# Altium schematic symbol library TPS.SchLib: 1 symbol
Pins are listed as number, name and electrical type; pins without a type are passive.

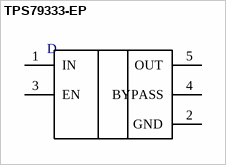
[diagram p0: symbol TPS79333-EP]

## TPS79333-EP
designator D  (value not drawn)
ULTRALOW-NOISE, HIGH-PSRR, FAST RF 200-mA / LOW-DROPOUT LINEAR REGULATORS, Available in 3.3 V and Adjustable
footprint R-PDSO-G5 (small-outline SOT23 package)
pins: 1 IN, 2 GND, 3 EN, 4 BYPASS, 5 OUT